# EAGLE library part ON_SEMICONDUCTOR-RF_TRANSCEIVER-AX5043 (library Module_ICs)
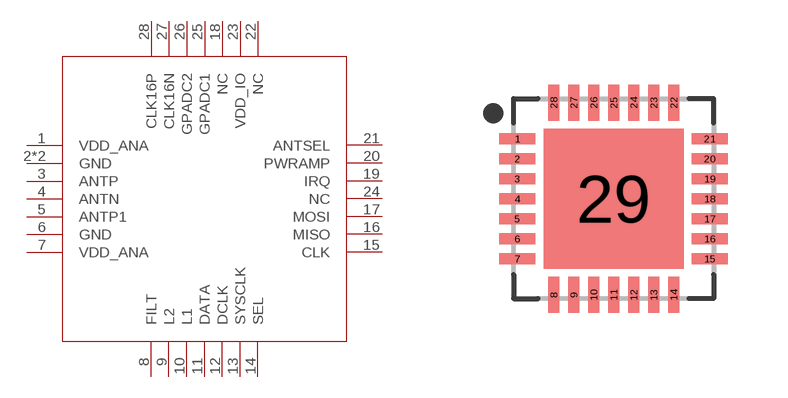
[diagram p75: symbol with the pads of ON_SEMICONDUCTOR-RF_TRANSCEIVER-AX5043; footprint ON_SEMICONDUCTOR-RF_TRANSCEIVER-AX5043]

Designator prefix U

## ON_SEMICONDUCTOR-RF_TRANSCEIVER-AX5043  [ON_SEMICONDUCTOR-RF_TRANSCEIVER-AX5043]
1  VDD_ANA
2  GND
3  ANTP
4  ANTN
5  ANTP1
6  GND
7  VDD_ANA
8  FILT
9  L2
10  L1
11  DATA
12  DCLK
13  SYSCLK
14  SEL
15  CLK
16  MISO
17  MOSI
18  NC
19  IRQ
20  PWRAMP
21  ANTSEL
22  NC
23  VDD_IO
24  NC
25  GPADC1
26  GPADC2
27  CLK16N
28  CLK16P
29  GND

## Footprint ON_SEMICONDUCTOR-RF_TRANSCEIVER-AX5043 (pad centres in mm)
28-QFN, 0.50 mm pitch, 5.00 X 5.00 X 1.00 mm body, 3.50 X 3.50 mm thermal pad 28-pin QFN package with 0.50 mm pitch with body size 5.00 X 5.00 X 1.00 mm and thermal pad size 3.50 X 3.50 mm
smd 0.901 x 0.27: 1 -2.406,1.5; 2 -2.406,1; 3 -2.406,0.5; 4 -2.406,0; 5 -2.406,-0.5; 6 -2.406,-1; 7 -2.406,-1.5; 15 2.406,-1.5; 16 2.406,-1; 17 2.406,-0.5; 18 2.406,0; 19 2.406,0.5; 20 2.406,1; 21 2.406,1.5
smd 0.27 x 0.901: 8 -1.5,-2.406; 9 -1,-2.406; 10 -0.5,-2.406; 11 0,-2.406; 12 0.5,-2.406; 13 1,-2.406; 14 1.5,-2.406; 22 1.5,2.406; 23 1,2.406; 24 0.5,2.406; 25 0,2.406; 26 -0.5,2.406; 27 -1,2.406; 28 -1.5,2.406
smd 3.5 x 3.5: 29 0,0